# EAGLE library part LPV802DGKR (library iot-lab-mcdermott)
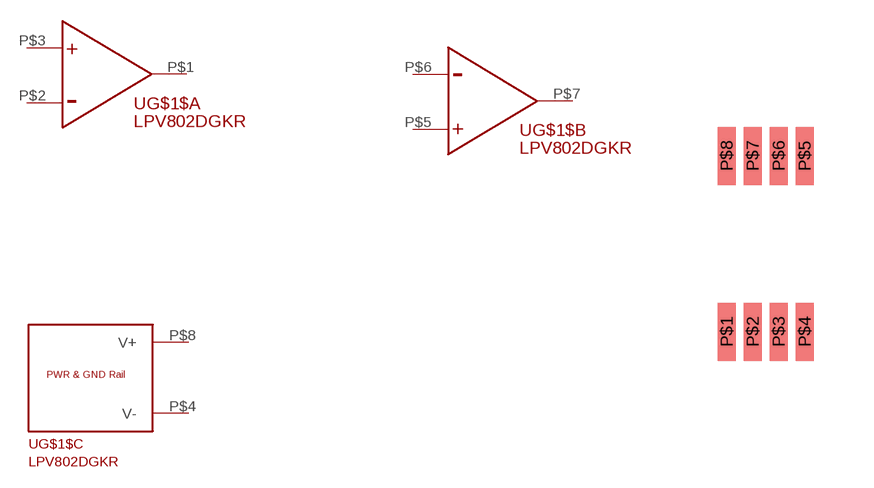
[diagram p0: symbol with the pads of VSSOP-8; footprint VSSOP-8]

Designator prefix U; gates G$1$A=LPV802 G$1$B=LPV802-B G$1$C=LPV802-PWR

## LPV802DGKR  [VSSOP-8]
P$1  G$1$A:OUTA  out
P$2  G$1$A:IN-A  in
P$3  G$1$A:IN+A  in
P$4  G$1$C:V-  sup
P$5  G$1$B:IN+B  in
P$6  G$1$B:IN-B  in
P$7  G$1$B:OUTB  out
P$8  G$1$C:V+  pwr

## Footprint VSSOP-8 (pad centres in mm)
smd 0.45 x 1.45: P$1 -0.975,-2.2; P$2 -0.325,-2.2; P$3 0.325,-2.2; P$4 0.975,-2.2; P$5 0.975,2.2; P$6 0.325,2.2; P$7 -0.325,2.2; P$8 -0.975,2.2